# Altium schematic symbol library ES1J.Schlib: 1 symbol
Pins are listed as number, name and electrical type; pins without a type are passive.

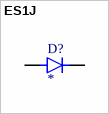
[diagram p0: symbol ES1J]

## ES1J
designator D?
35ns, 1A, 600V, Super Fast Recovery Rectifier
pins: A, C K